# Altium schematic symbol library microwave.SCHLIB: 6 symbols
Pins are listed as number, name and electrical type; pins without a type are passive.

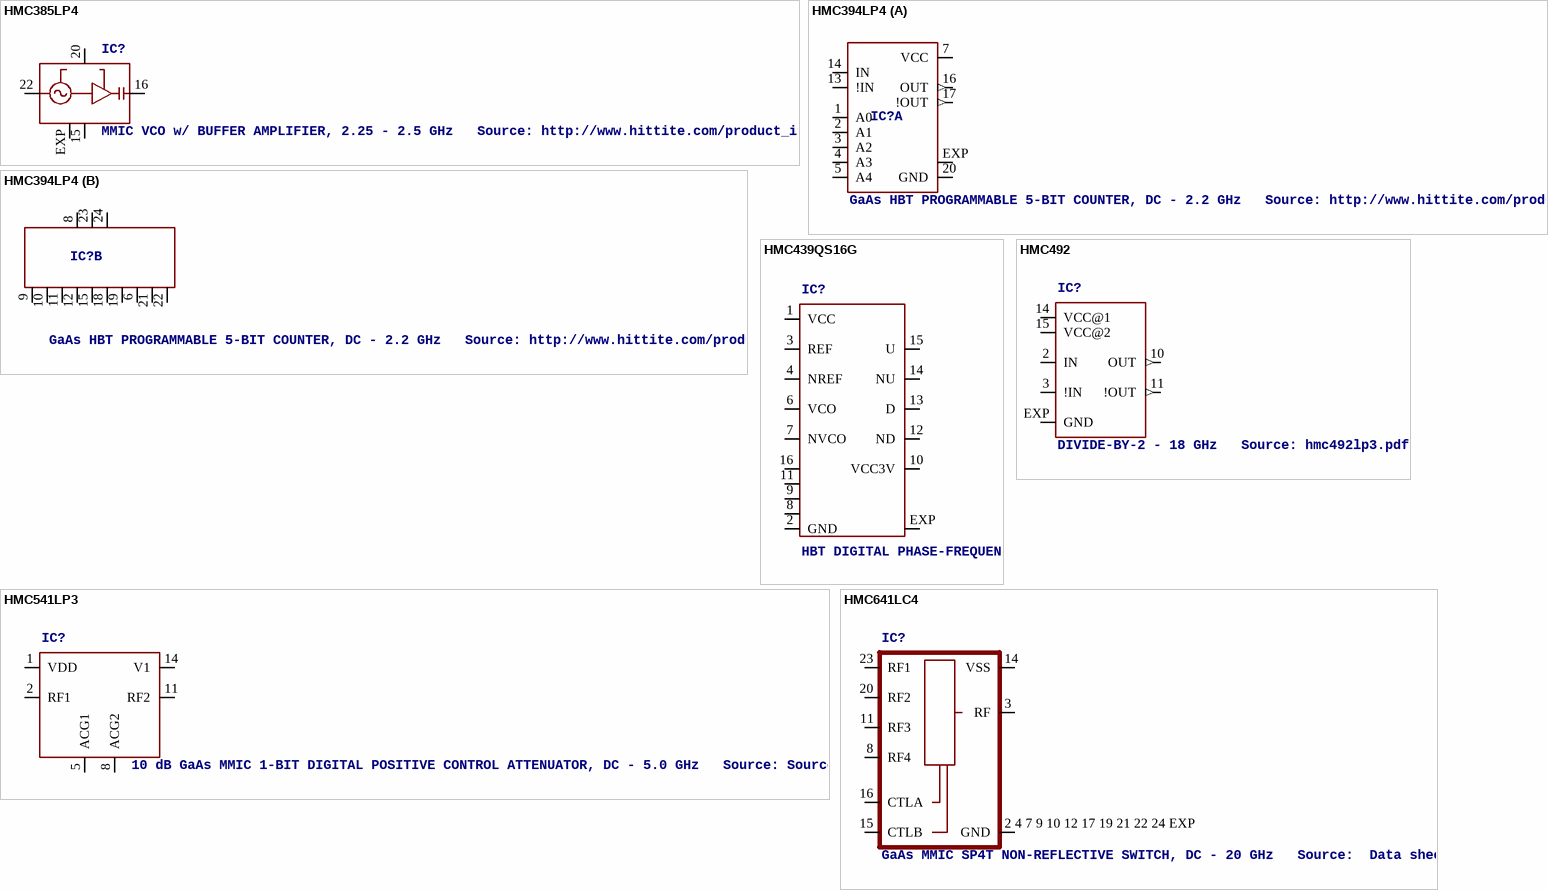
[diagram p0: symbols HMC385LP4 to HMC641LC4]

## HMC385LP4
designator IC?, comment MMIC VCO w/ BUFFER AMPLIFIER, 2.25 - 2.5 GHz   Source: http://www.hittite.com/product_info/product_specs/vcos/hmc385lp4.pdf
OC_FARNELL: unknown; OC_NEWARK: unknown
footprint QFN24
pins: 15 GND (power), 16 RFOUT, 20 VCC (power), 22 VTUNE, EXP

## HMC394LP4
designator IC?, comment GaAs HBT PROGRAMMABLE 5-BIT COUNTER, DC - 2.2 GHz   Source: http://www.hittite.com/product_info/product_specs/dividersdetectors/hmc394lp4.pdf
OC_FARNELL: unknown; OC_NEWARK: unknown
footprint QFN24
part A pins: 1 A0, 2 A1, 3 A2, 4 A3, 5 A4, 7 VCC (power), 13 !IN, 14 IN, 16 OUT (out), 17 !OUT (out), 20 GND (power), EXP
part B pins: 6 GND@8 (power), 8 VCC@1 (power), 9 GND@1 (power), 10 GND@2 (power), 11 GND@3 (power), 12 GND@4 (power), 15 GND@5 (power), 18 GND@6 (power), 19 GND@7 (power), 21 GND@9 (power), 22 GND@10 (power), 23 VCC@2 (power), 24 VCC@3 (power)

## HMC439QS16G
designator IC?, comment HBT DIGITAL PHASE-FREQUENCY DETECTOR, 10 - 1300 MHz   Source: http://www.hittite.com/product_info/product_specs/dividersdetectors/hmc439qs16g.pdf
OC_FARNELL: unknown; OC_NEWARK: unknown
footprint QSOP16
pins: 1 VCC (power), 2 GND (power), 3 REF, 4 NREF, 6 VCO, 7 NVCO, 8 GND@1 (power), 9 GND@2 (power), 10 VCC3V, 11 GND@3 (power), 12 ND (oc), 13 D (oc), 14 NU (oc), 15 U (oc), 16 GND@4 (power), EXP

## HMC492
designator IC?, comment DIVIDE-BY-2 - 18 GHz   Source: hmc492lp3.pdf
OC_FARNELL: unknown; OC_NEWARK: unknown
footprint QFN16
pins: 2 IN, 3 !IN, 10 OUT (out), 11 !OUT (out), 14 VCC@1 (power), 15 VCC@2 (power), EXP GND (power)

## HMC541LP3
designator IC?, comment 10 dB GaAs MMIC 1-BIT DIGITAL POSITIVE CONTROL ATTENUATOR, DC - 5.0 GHz   Source: Source: www.hittite.com .. hmc492lp3.pdf
OC_FARNELL: unknown; OC_NEWARK: unknown
footprint QFN16
pins: 1 VDD, 2 RF1, 5 ACG1, 8 ACG2, 11 RF2, 14 V1

## HMC641LC4
designator IC?, comment GaAs MMIC SP4T NON-REFLECTIVE SWITCH, DC - 20 GHz   Source:  Data sheet
footprint QFN24
pins: 2 4 7 9 10 12 17 19 21 22 24 EXP GND, 3 RF, 8 RF4, 11 RF3, 14 VSS, 15 CTLB, 16 CTLA, 20 RF2, 23 RF1